# Altium footprint library Devel_Airscout_PCB_LibV3.0.PcbLib: 67 footprints (part 5 of 5)
Each footprint in its own frame and in the unit in brackets; x right, y up, seen from the top. Pads: shape width x height; smd on the part's side, far side on the other; paste and mask are expansions set on the pad; w line width, h text height; cw(c..) or ccw(c..) is an arc to the next point about the centre after c.
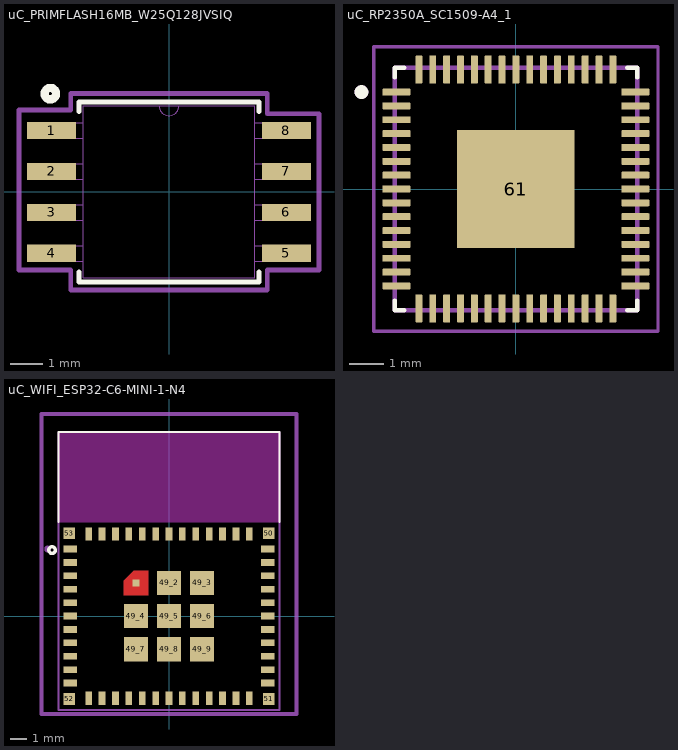
[diagram p4: the footprints below, top view; thin cyan lines are the x and y axes]

## uC_PRIMFLASH16MB_W25Q128JVSIQ [mil] "W25Q128JVSIQ footprint; SOIC_128JVSIQ_WIN"
pads (8):
  rect 59.56x20.97 smd paste+0 mask+0: 1(-143.5,75) 2(-143.5,25) 3(-143.5,-25) 4(-143.5,-75) 5(143.5,-75) 6(143.5,-25) 7(143.5,25) 8(143.5,75)
Top Overlay:
  circle w10: c-145,120 r7.07
  lines w6: -110,-98.04 -110,-110 110,-110 110,-98.04 ; -110,98.04 -110,110 110,110 110,98.04
Mechanical 13:
  lines w1: -12,105 ccw(c0,105) 12,105 ; -159.5,-84.5 -159.5,-65.5 -105,-65.5 -105,-84.5 -159.5,-84.5 ; -159.5,-34.5 -159.5,-15.5 -105,-15.5 -105,-34.5 -159.5,-34.5 ; -159.5,15.5 -159.5,34.5 -105,34.5 -105,15.5 -159.5,15.5 ; -159.5,65.5 -159.5,84.5 -105,84.5 -105,65.5 -159.5,65.5 ; -105,-105 105,-105 105,105 -105,105 -105,-105 ; 105,-84.5 105,-65.5 159.5,-65.5 159.5,-84.5 105,-84.5 ; 105,-34.5 105,-15.5 159.5,-15.5 159.5,-34.5 105,-34.5 ; 105,15.5 105,34.5 159.5,34.5 159.5,15.5 105,15.5 ; 105,65.5 105,84.5 159.5,84.5 159.5,65.5 105,65.5
Mechanical 15:
  lines w6: -183.28,-95.48 -183.28,100 -120,100 -120,120 120,120 120,95.48 183.28,95.48 183.28,-95.48 120,-95.48 120,-120 -120,-120 -120,-95.48 -183.28,-95.48
  text "W25Q128JVSIQ" at -113.3,129 h20
3D body "SOIC_128JVSIQ_WIN.step": height 85.12, standoff 0, extent -159.49,-105 159.49,105

## uC_RP2350A_SC1509-A4_1 [mm] "QFN40P700X700X90-61N; Footprint of SC1509-A4_1"
height 0.9
pads (61):
  rrect25% 0.81x0.2 smd paste+0 mask+0.102: 1(-3.45,2.8) 2(-3.45,2.4) 3(-3.45,2) 4(-3.45,1.6) 5(-3.45,1.2) 6(-3.45,0.8) 7(-3.45,0.4) 8(-3.45,0) 9(-3.45,-0.4) 10(-3.45,-0.8) 11(-3.45,-1.2) 12(-3.45,-1.6) 13(-3.45,-2) 14(-3.45,-2.4) 15(-3.45,-2.8) 31(3.45,-2.8) 32(3.45,-2.4) 33(3.45,-2) 34(3.45,-1.6) 35(3.45,-1.2) 36(3.45,-0.8) 37(3.45,-0.4) 38(3.45,0) 39(3.45,0.4) 40(3.45,0.8) 41(3.45,1.2) 42(3.45,1.6) 43(3.45,2) 44(3.45,2.4) 45(3.45,2.8)
  rrect25% 0.2x0.81 smd paste+0 mask+0.102: 16(-2.8,-3.45) 17(-2.4,-3.45) 18(-2,-3.45) 19(-1.6,-3.45) 20(-1.2,-3.45) 21(-0.8,-3.45) 22(-0.4,-3.45) 23(0,-3.45) 24(0.4,-3.45) 25(0.8,-3.45) 26(1.2,-3.45) 27(1.6,-3.45) 28(2,-3.45) 29(2.4,-3.45) 30(2.8,-3.45) 46(2.8,3.45) 47(2.4,3.45) 48(2,3.45) 49(1.6,3.45) 50(1.2,3.45) 51(0.8,3.45) 52(0.4,3.45) 53(0,3.45) 54(-0.4,3.45) 55(-0.8,3.45) 56(-1.2,3.45) 57(-1.6,3.45) 58(-2,3.45) 59(-2.4,3.45) 60(-2.8,3.45)
  rect 3.4x3.4 smd paste-0.62 mask+0.102: 61(0,0)
Top Overlay:
  circle w0.2: c-4.46,2.8 r0.1
  lines w0.127: -3.5,-3.22 -3.5,-3.5 -3.22,-3.5 ; -3.5,3.22 -3.5,3.5 -3.22,3.5 ; 3.22,-3.5 3.5,-3.5 3.5,-3.22 ; 3.22,3.5 3.5,3.5 3.5,3.22
Mechanical 13:
  circle w0.2: c-4.46,2.8 r0.1
  lines w0.127: -3.5,-3.5 -3.5,3.5 3.5,3.5 3.5,-3.5 -3.5,-3.5
Mechanical 15:
  lines w0.1: -4.105,-4.105 -4.105,4.105 4.105,4.105 4.105,-4.105 -4.105,-4.105
3D body "RP2350A.stp": height 0.96, standoff 0, extent -3.55,-3.55 3.55,3.55

## uC_WIFI_ESP32-C6-MINI-1-N4 [mm] "Footprint for ESP32-C6-MINI-1-N4"
height 2.55
pads (61):
  rect 0.8x0.4 smd: 1(-5.9,4) 2(-5.9,3.2) 3(-5.9,2.4) 4(-5.9,1.6) 5(-5.9,0.8) 6(-5.9,0) 7(-5.9,-0.8) 8(-5.9,-1.6) 9(-5.9,-2.4) 10(-5.9,-3.2) 11(-5.9,-4) 25(5.9,-4) 26(5.9,-3.2) 27(5.9,-2.4) 28(5.9,-1.6) 29(5.9,-0.8) 30(5.9,0) 31(5.9,0.8) 32(5.9,1.6) 33(5.9,2.4) 34(5.9,3.2) 35(5.9,4)
  rect 0.4x0.8 smd: 12(-4.8,-4.9) 13(-4,-4.9) 14(-3.2,-4.9) 15(-2.4,-4.9) 16(-1.6,-4.9) 17(-0.8,-4.9) 18(0,-4.9) 19(0.8,-4.9) 20(1.6,-4.9) 21(2.4,-4.9) 22(3.2,-4.9) 23(4,-4.9) 24(4.8,-4.9) 36(4.8,4.9) 37(4,4.9) 38(3.2,4.9) 39(2.4,4.9) 40(1.6,4.9) 41(0.8,4.9) 42(0,4.9) 43(-0.8,4.9) 44(-1.6,4.9) 45(-2.4,4.9) 46(-3.2,4.9) 47(-4,4.9) 48(-4.8,4.9)
  rect 0.4x0.4 smd paste-1 mask+0: 49_1(-1.975,1.975)
  rect 1.45x1.45 smd: 49_2(0,1.975) 49_3(1.975,1.975) 49_4(-1.975,0) 49_5(0,0) 49_6(1.975,0) 49_7(-1.975,-1.975) 49_8(0,-1.975) 49_9(1.975,-1.975)
  rect 0.7x0.7 smd: 50(5.95,4.95) 51(5.95,-4.95) 52(-5.95,-4.95) 53(-5.95,4.95)
Top Layer:
  region: -1.25,1.25 -2.7,1.25 -2.7,2.1 -2.1,2.7 -1.25,2.7
Top Overlay:
  circle w0.2: c-6.985,3.937 r0.2
  lines w0.127: -6.6,5.62 -6.6,11 6.6,11 6.6,5.62
Top Paste:
  region: -1.25,1.25 -2.7,1.25 -2.7,2.1 -2.1,2.7 -1.25,2.7
Top Solder:
  region: -1.15,1.15 -2.8,1.15 -2.8,2.15 -2.15,2.8 -1.15,2.8
Keep-Out Layer:
  region: 6.6,5.6 -6.6,5.6 -6.6,11 6.6,11
Mechanical 13:
  circle w0.2: c-7.25,4 r0.1
  lines w0.127: -6.6,-5.6 6.6,-5.6 6.6,11 -6.6,11 -6.6,-5.6
Mechanical 15:
  lines w0.25: -7.62,-5.85 -7.62,12.065 7.62,12.065 7.62,-5.85 -7.62,-5.85
  text "ESP32-C6-MINI" at -6.581,12.573 h1
3D body "step_temp.STEP": height 2.55, standoff 0, extent -6.6,-5.6 6.6,11